# EAGLE library part DF13-8P (library connector)
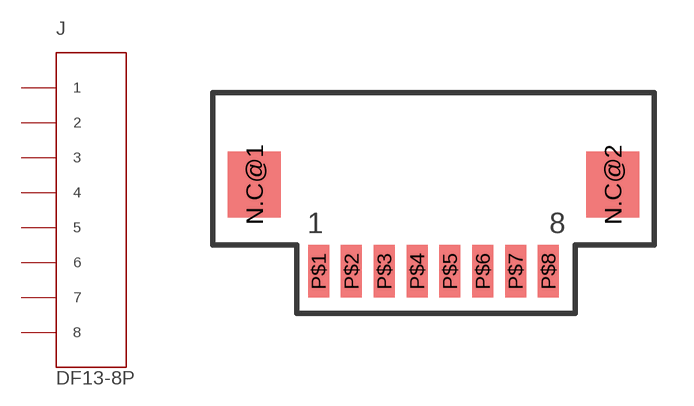
[diagram p6: symbol with the pads of DF13-8P-1.25H; footprint DF13-8P-1.25H]

Designator prefix J

## DF13-8P  [DF13-8P-1.25H]
P$1  1
P$2  2
P$3  3
P$4  4
P$5  5
P$6  6
P$7  7
P$8  8

## Footprint DF13-8P-1.25H (pad centres in mm)
smd 2 x 2.5: N.C@1 -6.825,3.3; N.C@2 6.825,3.3
smd 0.8 x 2: P$1 -4.375,0; P$2 -3.125,0; P$3 -1.875,0; P$4 -0.625,0; P$5 0.625,0; P$6 1.875,0; P$7 3.125,0; P$8 4.375,0